# Altium footprint library 电流测量仪仪主控板原理图PCB封装库.PcbLib: 34 footprints (part 2 of 3)
Each footprint in its own frame and in the unit in brackets; x right, y up, seen from the top. Pads: shape width x height; smd on the part's side, far side on the other; paste and mask are expansions set on the pad; w line width, h text height; cw(c..) or ccw(c..) is an arc to the next point about the centre after c.
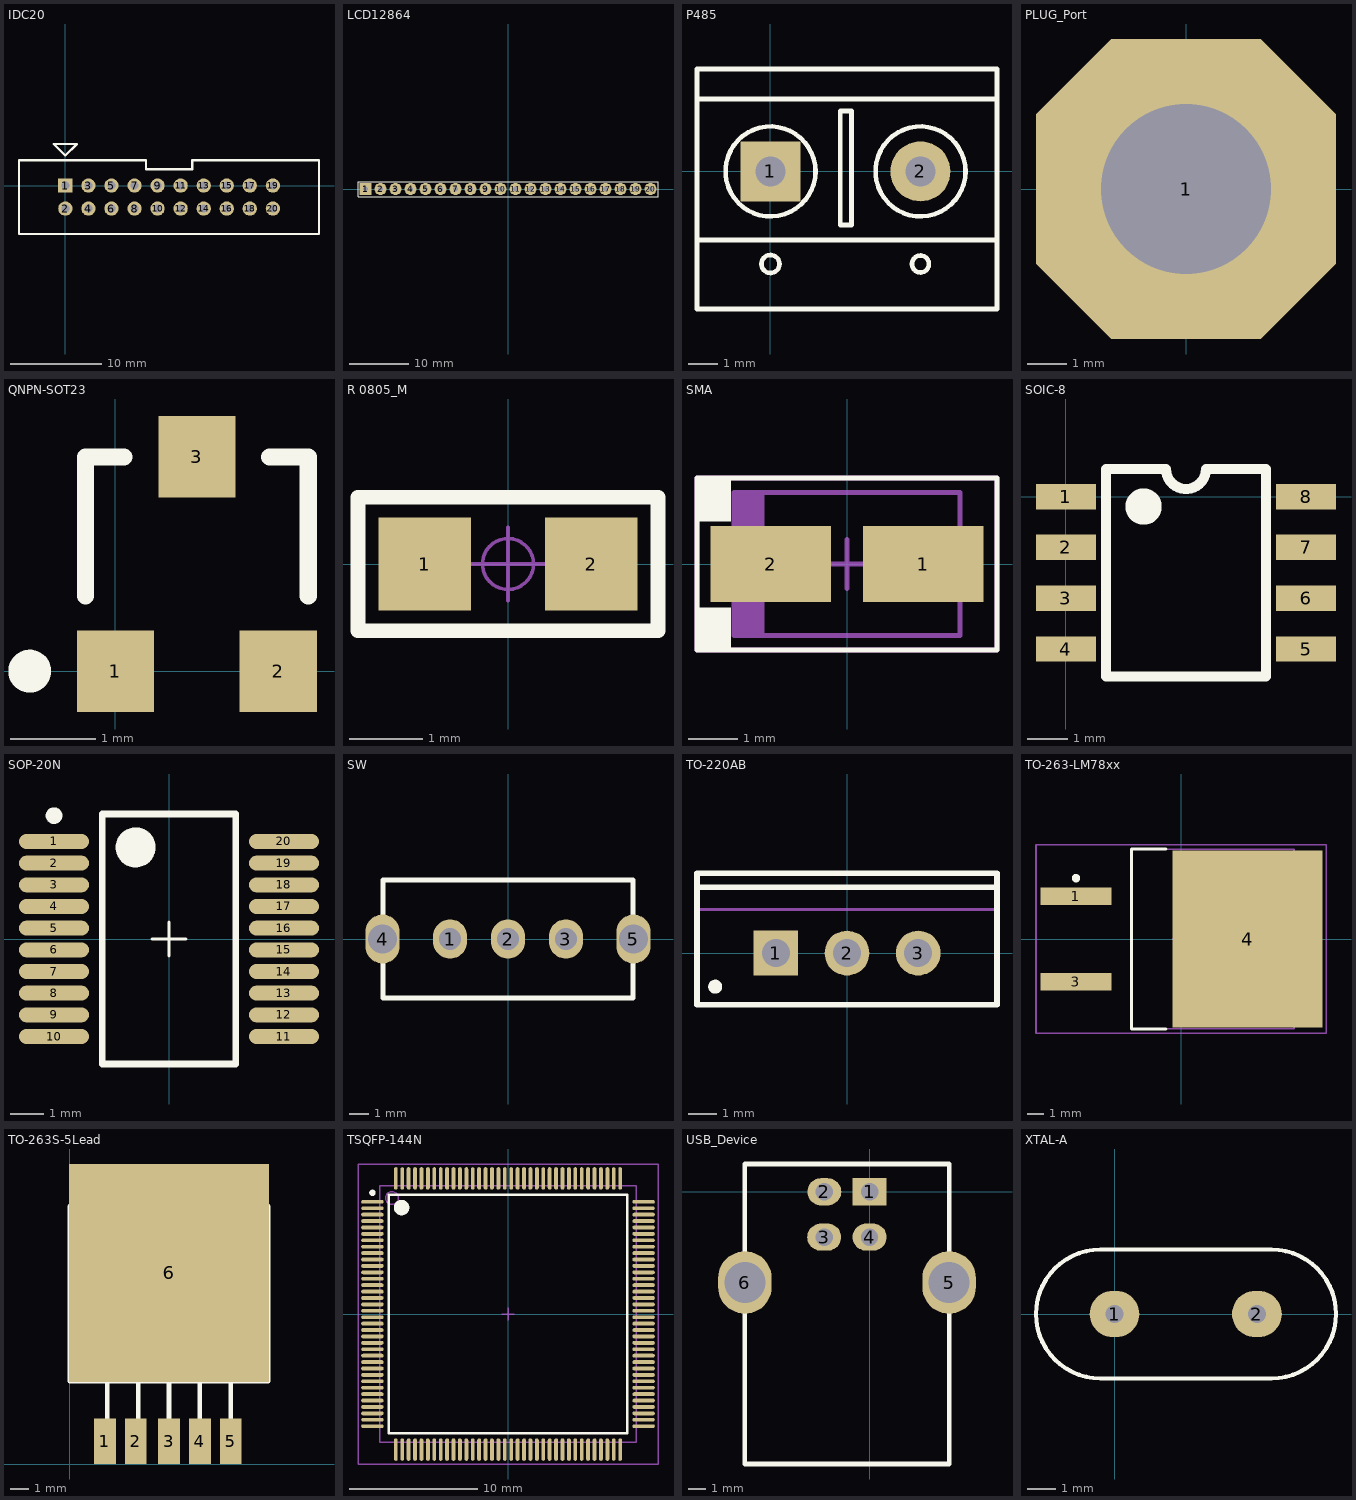
[diagram p1: the footprints below, top view; thin cyan lines are the x and y axes]

## IDC20 [mil] "2.54mm*20"
height 21.65
pads (20):
  rect 62x62 hole 35.43: 1(0,0)
  round 62 hole 35.43: 2(0,-100) 3(100,0) 4(100,-100) 5(200,0) 6(200,-100) 7(300,0) 8(300,-100) 9(400,0) 10(400,-100) 11(500,0) 12(500,-100) 13(600,0) 14(600,-100) 15(700,0) 16(700,-100) 17(800,0) 18(800,-100) 19(900,0) 20(900,-100)
Top Overlay:
  lines w10: -201,-210 1100,-210 1100,110 550,110 550,71 350,71 350,110 -201,110 -201,-210 ; -50,180 0,130 50,180 -50,180

## LCD12864 [mil]
height 96.06
pads (20):
  rect 80x80 hole 35.43: 1(-950,0)
  round 80 hole 35.43: 2(-850,0) 3(-750,0) 4(-650,0) 5(-550,0) 6(-450,0) 7(-350,0) 8(-250,0) 9(-150,0) 10(-50,0) 11(50,0) 12(150,0) 13(250,0) 14(350,0) 15(450,0) 16(550,0) 17(650,0) 18(750,0) 19(850,0) 20(950,0)
Top Overlay:
  lines w7.87: -1000,-50 -1000,50 -925,50 1000,50 1000,-50 -1000,-50

## P485 [mm] "5mm间距485端子"
height 10
pads (2):
  rect 2x2 hole 1: 1(0,0)
  round 2 hole 1: 2(5,0)
Top Overlay:
  circle w0.152: c0,-3.086 r0.3
  circle w0.152: c5,-3.086 r0.283
  circle w0.152: c0,0 r1.5
  circle w0.152: c5,0 r1.5
  lines w0.152: -2.449,-2.286 7.551,-2.286 ; -2.349,2.414 7.551,2.414 ; -2.449,-4.586 7.551,-4.586 7.551,3.414 -2.449,3.414 -2.449,-4.586 ; 2.326,-1.786 2.701,-1.786 2.701,2.014 2.326,2.014 2.326,-1.786

## PLUG_Port [mil]
height 96.06
pads (1):
  oct 300x300 hole 170: 1(0,0)

## QNPN-SOT23 [mm] "9013, EBC"
height 0.55
pads (3):
  rect 0.9x0.95 smd: 1(0,0) 2(1.9,0) 3(0.95,2.5)
Top Overlay:
  circle w0.25: c-1,0 r0.125
  lines w0.2: -0.35,0.875 -0.35,2.5 0.1,2.5 ; 1.8,2.5 2.25,2.5 2.25,0.875

## R 0805_M [mil] "1/8W贴片电阻"
height 96.06
pads (2):
  rect 50x50 smd: 1(-45,0) 2(45,0)
Top Overlay:
  lines w8: -81,-36 -81,36 81,36 81,-36 -81,-36
Mechanical 15:
  circle w1.97: c0,0 r13.78
  lines w1.97: -19.68,0 19.69,0 ; 0,-19.68 0,19.69
3D body: height 19.72, standoff -0.24, extent -39.37,-24.6 39.37,24.61

## SMA [mm] "Molded Diode, 2-Leads, Body 4.3x2.7mm, IPC Medium Density"
height 2.44
pads (2):
  rect 2.45x1.55 smd: 1(1.55,0) 2(-1.55,0)
Top Overlay:
  region: -2.362,1.753 -3.048,1.753 -3.048,0.864 -2.362,0.864
  region: -2.362,-0.889 -3.048,-0.889 -3.048,-1.753 -2.362,-1.753
  lines w0.1: -3.048,-1.753 -3.048,1.753 3.048,1.753 3.048,-1.753 -3.048,-1.753
Mechanical 13:
  region: -1.681,1.45 -2.3,1.45 -2.3,-1.45 -1.681,-1.45
  lines w0.1: -2.3,-1.45 2.3,-1.45 2.3,1.45 -2.3,1.45 -2.3,-1.45
Mechanical 15:
  lines w0.1: -0.5,0 0.5,0 ; 0,-0.5 0,0.5 ; -3.05,-1.75 3.05,-1.75 3.05,1.75 -3.05,1.75 -3.05,-1.75
3D body: height 2.44, standoff 0, extent -2.3,-1.45 2.3,1.45

## SOIC-8 [mil] "LF353,LM358"
height 96.06
pads (8):
  rect 59x25 smd: 1(0,0) 2(0,-50) 3(0,-100) 4(0,-150) 5(236.22,-150) 6(236.22,-100) 7(236.22,-50) 8(236.22,0)
Top Overlay:
  circle w23.62: c76.38,-9.8 r6
  lines w10: 39.37,-177.17 196.85,-177.17 196.85,27.16 137.8,27.16 cw(c118.11,27.16) 98.43,27.17 39.37,27.16 39.37,-177.17

## SOP-20N [mm] "SOP, 20-Leads, Body 7.5x5.6mm (max), Pitch 0.65mm, IPC Medium Density"
height 2
pads (20):
  oval 2.1x0.45 smd: 1(-3.45,2.925) 2(-3.45,2.275) 3(-3.45,1.625) 4(-3.45,0.975) 5(-3.45,0.325) 6(-3.45,-0.325) 7(-3.45,-0.975) 8(-3.45,-1.625) 9(-3.45,-2.275) 10(-3.45,-2.925) 11(3.45,-2.925) 12(3.45,-2.275) 13(3.45,-1.625) 14(3.45,-0.975) 15(3.45,-0.325) 16(3.45,0.325) 17(3.45,0.975) 18(3.45,1.625) 19(3.45,2.275) 20(3.45,2.925)
Top Overlay:
  circle w0.25: c-3.45,3.7 r0.125
  circle w0.6: c-1,2.75 r0.3
  lines w0.1: -0.5,0 0.5,0 ; 0,-0.5 0,0.5
  lines w0.2: -2,-3.75 -2,3.75 2,3.75 2,-3.75 -2,-3.75

## SW [mil]
height 472.44
pads (5):
  oval 70x80 hole 45: 1(-118.11,0) 2(0,0) 3(118.11,0)
  oval 70x100 hole 60: 4(-255.91,0) 5(255.91,0)
Top Overlay:
  lines w10: -255,-120 255,-120 255,120 -255,120 -255,-120

## TO-220AB [mm] "TO, Thru-Hole, Vertical, Heatsink Mounted; 3 In-Line Leads; Pitch 2.54 mm"
height 19.3
pads (3):
  rect 1.6x1.6 hole 1: 1(-2.54,0)
  round 1.6 hole 1: 2(0,0) 3(2.54,0)
Top Overlay:
  circle w0.25: c-4.7,-1.2 r0.125
  lines w0.2: -5.35,2.35 5.35,2.35 ; -5.35,-1.85 -5.35,2.85 5.35,2.85 5.35,-1.85 -5.35,-1.85
Mechanical 13:
  lines w0.1: -5.35,1.55 5.35,1.55 ; -5.35,-1.85 5.35,-1.85 5.35,2.85 -5.35,2.85 -5.35,-1.85
Mechanical 15:
  lines w0.1: -0.5,0 0.5,0 ; 0,-0.5 0,0.5
3D body: height 12.9, standoff 4, extent -5.4,-1.9 5.4,2.9
3D body: height 19.3, standoff 12.9, extent -5.349,1.551 5.349,2.849

## TO-263-LM78xx [mm] "TO228P970-3N"
height 4.83
pads (3):
  rect 4.2x1.05 smd: 1(-6.25,2.54) 3(-6.25,-2.54)
  rect 8.9x10.5 smd: 4(3.95,0)
Top Overlay:
  circle w0.25: c-6.25,3.615 r0.125
  lines w0.2: -0.9,-5.35 -2.95,-5.35 -2.95,5.35 -0.9,5.35
Mechanical 13:
  lines w0.1: -2.95,-5.325 -2.95,5.325 6.7,5.325 6.7,-5.325 -2.95,-5.325
Mechanical 15:
  lines w0.1: -0.5,0 0.5,0 ; 0,-0.5 0,0.5 ; -8.625,-5.6 -8.625,5.6 8.625,5.6 8.625,-5.6 -8.625,-5.6
3D body: height 4.83, standoff 0, extent -2.95,-5.325 6.7,5.325

## TO-263S-5Lead [mm]
height 0.55
pads (6):
  rect 1.2x2.5 smd: 1(1.934,1.27) 2(3.634,1.27) 3(5.461,1.27) 4(7.161,1.27) 5(8.861,1.27)
  rect 11x12 smd: 6(5.461,10.541)
Top Overlay:
  circle w0.254: c1.165,5.588 r0.359
  lines w0.254: 0,12.573 10.922,12.573 ; 0,13.081 10.922,13.081 ; 2.061,2.54 2.061,4.572 ; 3.761,2.54 3.761,4.572 ; 5.461,2.54 5.461,4.572 ; 7.161,2.54 7.161,4.572 ; 8.861,2.54 8.861,4.572 ; 0,4.572 0,14.224 0.762,14.986 2.73,14.986 3.111,15.367 7.81,15.367 8.191,14.986 10.16,14.986 10.922,14.224 10.922,4.572 0,4.572

## TSQFP-144N [mm] "TSQFP, 144-Leads, Body 22.2x22.2mm (max), Pitch 0.50mm, IPC Medium Density"
height 1.6
pads (144):
  oval 1.75x0.3 smd: 1(-10.575,8.75) 2(-10.575,8.25) 3(-10.575,7.75) 4(-10.575,7.25) 5(-10.575,6.75) 6(-10.575,6.25) 7(-10.575,5.75) 8(-10.575,5.25) 9(-10.575,4.75) 10(-10.575,4.25) 11(-10.575,3.75) 12(-10.575,3.25) 13(-10.575,2.75) 14(-10.575,2.25) 15(-10.575,1.75) 16(-10.575,1.25) 17(-10.575,0.75) 18(-10.575,0.25) 19(-10.575,-0.25) 20(-10.575,-0.75) 21(-10.575,-1.25) 22(-10.575,-1.75) 23(-10.575,-2.25) 24(-10.575,-2.75) 25(-10.575,-3.25) 26(-10.575,-3.75) 27(-10.575,-4.25) 28(-10.575,-4.75) 29(-10.575,-5.25) 30(-10.575,-5.75) 31(-10.575,-6.25) 32(-10.575,-6.75) 33(-10.575,-7.25) 34(-10.575,-7.75) 35(-10.575,-8.25) 36(-10.575,-8.75) 73(10.575,-8.75) 74(10.575,-8.25) 75(10.575,-7.75) 76(10.575,-7.25) 77(10.575,-6.75) 78(10.575,-6.25) 79(10.575,-5.75) 80(10.575,-5.25) 81(10.575,-4.75) 82(10.575,-4.25) 83(10.575,-3.75) 84(10.575,-3.25) 85(10.575,-2.75) 86(10.575,-2.25) 87(10.575,-1.75) 88(10.575,-1.25) 89(10.575,-0.75) 90(10.575,-0.25) 91(10.575,0.25) 92(10.575,0.75) 93(10.575,1.25) 94(10.575,1.75) 95(10.575,2.25) 96(10.575,2.75) 97(10.575,3.25) 98(10.575,3.75) 99(10.575,4.25) 100(10.575,4.75) 101(10.575,5.25) 102(10.575,5.75) 103(10.575,6.25) 104(10.575,6.75) 105(10.575,7.25) 106(10.575,7.75) 107(10.575,8.25) 108(10.575,8.75)
  oval 0.3x1.75 smd: 37(-8.75,-10.575) 38(-8.25,-10.575) 39(-7.75,-10.575) 40(-7.25,-10.575) 41(-6.75,-10.575) 42(-6.25,-10.575) 43(-5.75,-10.575) 44(-5.25,-10.575) 45(-4.75,-10.575) 46(-4.25,-10.575) 47(-3.75,-10.575) 48(-3.25,-10.575) 49(-2.75,-10.575) 50(-2.25,-10.575) 51(-1.75,-10.575) 52(-1.25,-10.575) 53(-0.75,-10.575) 54(-0.25,-10.575) 55(0.25,-10.575) 56(0.75,-10.575) 57(1.25,-10.575) 58(1.75,-10.575) 59(2.25,-10.575) 60(2.75,-10.575) 61(3.25,-10.575) 62(3.75,-10.575) 63(4.25,-10.575) 64(4.75,-10.575) 65(5.25,-10.575) 66(5.75,-10.575) 67(6.25,-10.575) 68(6.75,-10.575) 69(7.25,-10.575) 70(7.75,-10.575) 71(8.25,-10.575) 72(8.75,-10.575) 109(8.75,10.575) 110(8.25,10.575) 111(7.75,10.575) 112(7.25,10.575) 113(6.75,10.575) 114(6.25,10.575) 115(5.75,10.575) 116(5.25,10.575) 117(4.75,10.575) 118(4.25,10.575) 119(3.75,10.575) 120(3.25,10.575) 121(2.75,10.575) 122(2.25,10.575) 123(1.75,10.575) 124(1.25,10.575) 125(0.75,10.575) 126(0.25,10.575) 127(-0.25,10.575) 128(-0.75,10.575) 129(-1.25,10.575) 130(-1.75,10.575) 131(-2.25,10.575) 132(-2.75,10.575) 133(-3.25,10.575) 134(-3.75,10.575) 135(-4.25,10.575) 136(-4.75,10.575) 137(-5.25,10.575) 138(-5.75,10.575) 139(-6.25,10.575) 140(-6.75,10.575) 141(-7.25,10.575) 142(-7.75,10.575) 143(-8.25,10.575) 144(-8.75,10.575)
Top Overlay:
  circle w0.25: c-10.575,9.45 r0.125
  circle w0.6: c-8.3,8.3 r0.3
  lines w0.2: -9.3,-9.3 -9.3,9.3 9.3,9.3 9.3,-9.3 -9.3,-9.3
Mechanical 13:
  circle w0.1: c-9.05,9.05 r0.5
  lines w0.1: -10,-10 -10,10 10,10 10,-10 -10,-10
Mechanical 15:
  lines w0.1: -0.5,0 0.5,0 ; 0,-0.5 0,0.5 ; -11.7,-11.7 -11.7,11.7 11.7,11.7 11.7,-11.7 -11.7,-11.7
3D body: height 1.6, standoff 0.15, extent -10,-10 10,10

## USB_Device [mil]
height 21.65
pads (6):
  rect 75x60 hole 38: 1(0.35,-0.08)
  oval 75x60 hole 38: 2(-99.65,-0.08) 3(-100,-100) 4(0,-100)
  oval 118.11x137.8 hole 90.55: 5(175.35,-200) 6(-274.65,-200)
Top Overlay:
  lines w10: -274.65,-600 175.35,-600 175.35,61.18 -274.65,61.18 -274.65,-600

## XTAL-A [mm]
height 4
pads (2):
  oval 1.778x1.65 hole 0.635: 1(0,0) 2(5.08,0)
Top Overlay:
  lines w0.152: -0.5,-2.3 cw(c-0.5,0) -0.5,2.3 5.6,2.3 cw(c5.6,0) 5.6,-2.3 -0.5,-2.3